# EAGLE library part CC3200MODR1M2AMOBT (library circuit_tree)
IC
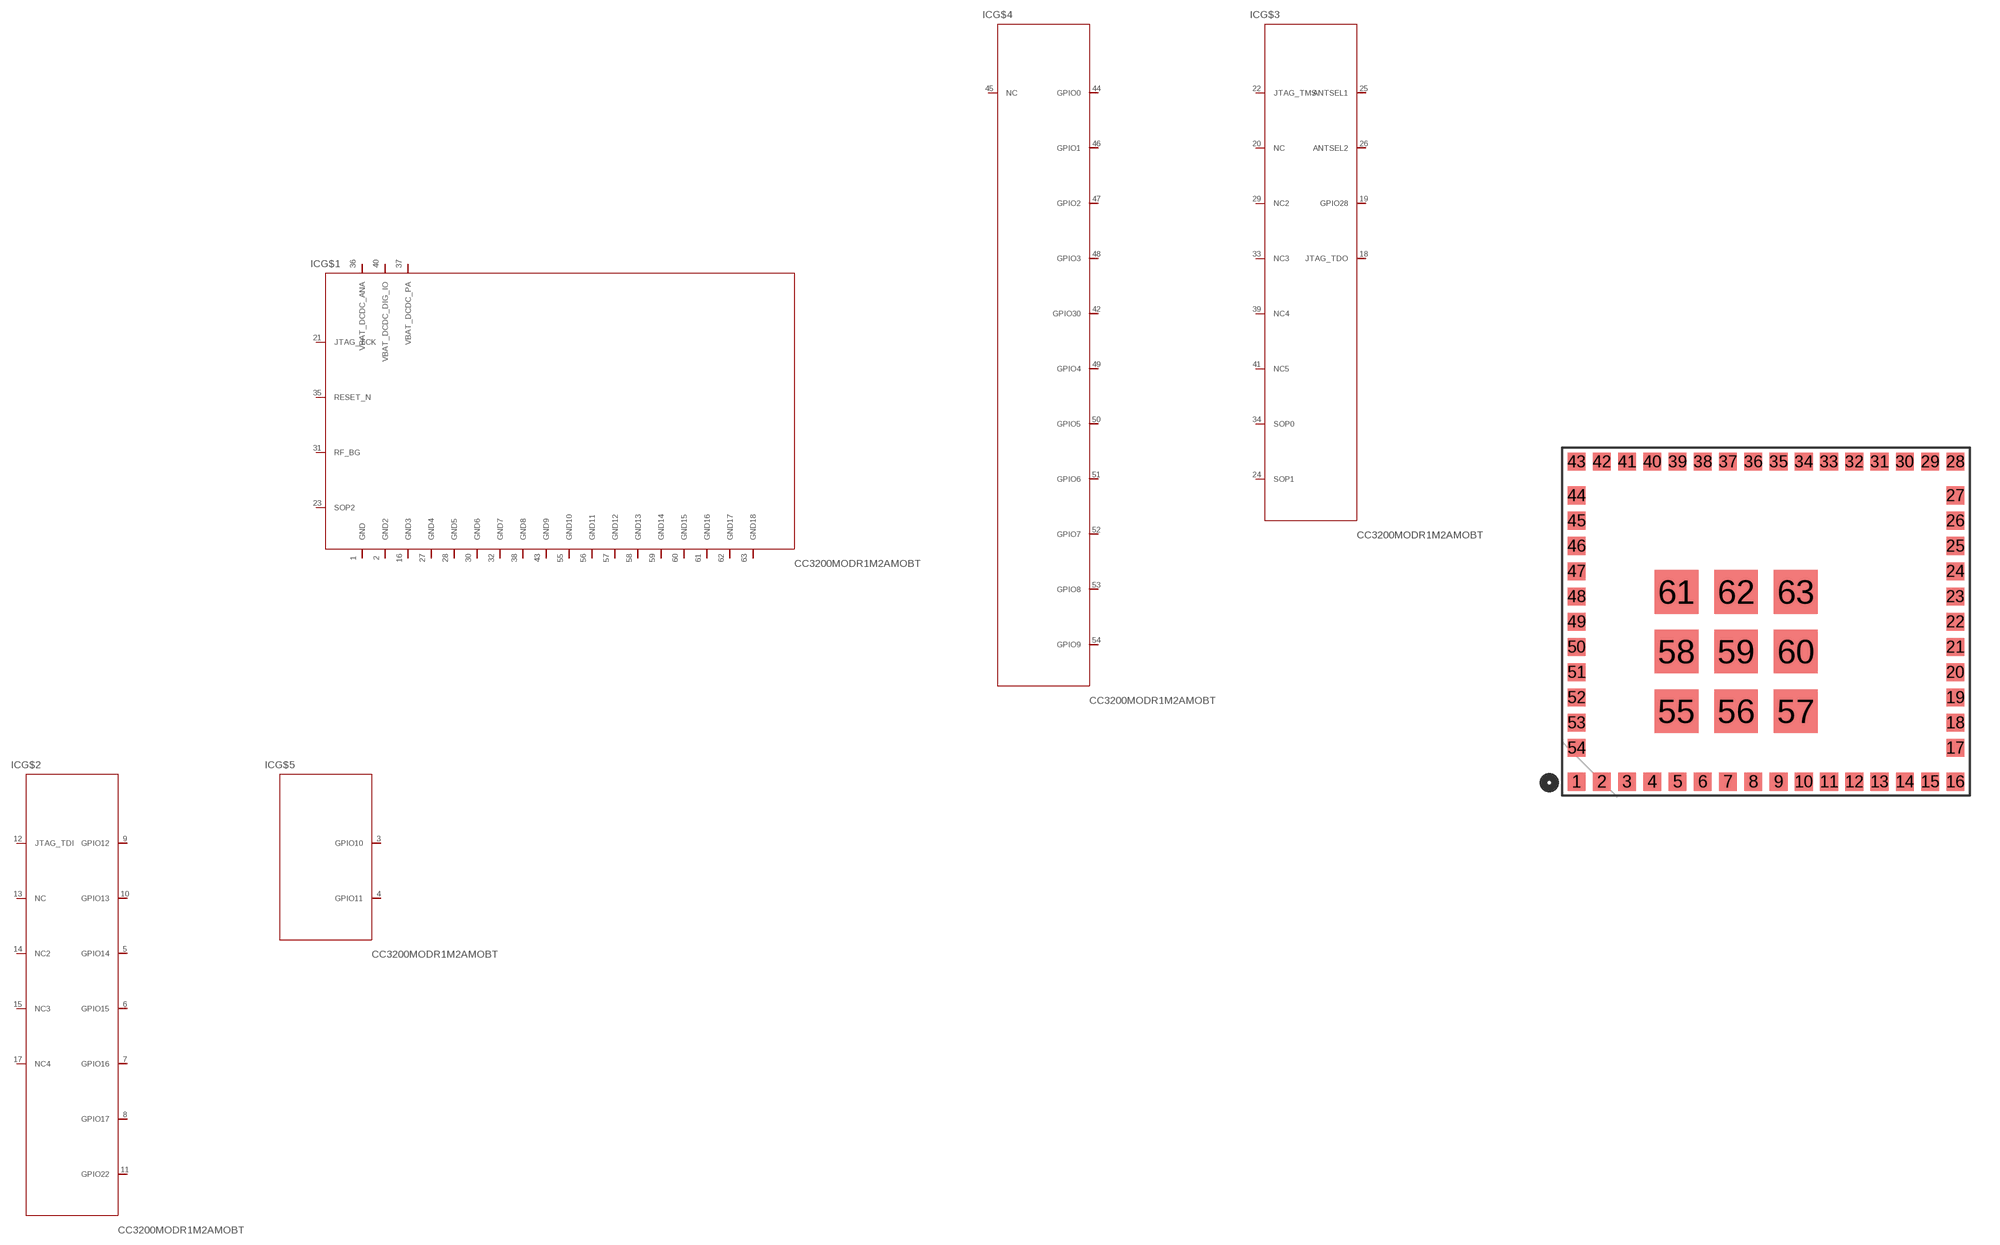
[diagram p0: symbol with the pads of LGA63S127P16X13_2050X1750X150; footprint LGA63S127P16X13_2050X1750X150]

Designator prefix IC; gates G$1=CC3200MODR1M2AMOBT G$2=CC3200MODR1M2AMOBT2 G$3=CC3200MODR1M2AMOBT3 G$4=CC3200MODR1M2AMOBT4 G$5=CC3200MODR1M2AMOBT5

## CC3200MODR1M2AMOBT  [LGA63S127P16X13_2050X1750X150]
1  G$1:GND  pas
2  G$1:GND2  pas
3  G$5:GPIO10  pas
4  G$5:GPIO11  pas
5  G$2:GPIO14  pas
6  G$2:GPIO15  pas
7  G$2:GPIO16  pas
8  G$2:GPIO17  pas
9  G$2:GPIO12  pas
10  G$2:GPIO13  pas
11  G$2:GPIO22  pas
12  G$2:JTAG_TDI  pas
13  G$2:NC  pas
14  G$2:NC2  pas
15  G$2:NC3  pas
16  G$1:GND3  pas
17  G$2:NC4  pas
18  G$3:JTAG_TDO  pas
19  G$3:GPIO28  pas
20  G$3:NC  pas
21  G$1:JTAG_TCK  pas
22  G$3:JTAG_TMS  pas
23  G$1:SOP2  pas
24  G$3:SOP1  pas
25  G$3:ANTSEL1  pas
26  G$3:ANTSEL2  pas
27  G$1:GND4  pas
28  G$1:GND5  pas
29  G$3:NC2  pas
30  G$1:GND6  pas
31  G$1:RF_BG  pas
32  G$1:GND7  pas
33  G$3:NC3  pas
34  G$3:SOP0  pas
35  G$1:RESET_N  pas
36  G$1:VBAT_DCDC_ANA  pas
37  G$1:VBAT_DCDC_PA  pas
38  G$1:GND8  pas
39  G$3:NC4  pas
40  G$1:VBAT_DCDC_DIG_IO  pas
41  G$3:NC5  pas
42  G$4:GPIO30  pas
43  G$1:GND9  pas
44  G$4:GPIO0  pas
45  G$4:NC  pas
46  G$4:GPIO1  pas
47  G$4:GPIO2  pas
48  G$4:GPIO3  pas
49  G$4:GPIO4  pas
50  G$4:GPIO5  pas
51  G$4:GPIO6  pas
52  G$4:GPIO7  pas
53  G$4:GPIO8  pas
54  G$4:GPIO9  pas
55  G$1:GND10  pas
56  G$1:GND11  pas
57  G$1:GND12  pas
58  G$1:GND13  pas
59  G$1:GND14  pas
60  G$1:GND15  pas
61  G$1:GND16  pas
62  G$1:GND17  pas
63  G$1:GND18  pas

## Footprint LGA63S127P16X13_2050X1750X150 (pad centres in mm)
smd 0.9 x 0.9: 1 -9.525,-8.05; 2 -8.255,-8.05; 3 -6.985,-8.05; 4 -5.715,-8.05; 5 -4.445,-8.05; 6 -3.175,-8.05; 7 -1.905,-8.05; 8 -0.635,-8.05; 9 0.635,-8.05; 10 1.905,-8.05; 11 3.175,-8.05; 12 4.445,-8.05; 13 5.715,-8.05; 14 6.985,-8.05; 15 8.255,-8.05; 16 9.525,-8.05; 17 9.525,-6.35; 18 9.525,-5.08; 19 9.525,-3.81; 20 9.525,-2.54; 21 9.525,-1.27; 22 9.525,0; 23 9.525,1.27; 24 9.525,2.54; 25 9.525,3.81; 26 9.525,5.08; 27 9.525,6.35; 28 9.525,8.05; 29 8.255,8.05; 30 6.985,8.05; 31 5.715,8.05; 32 4.445,8.05; 33 3.175,8.05; 34 1.905,8.05; 35 0.635,8.05; 36 -0.635,8.05; 37 -1.905,8.05; 38 -3.175,8.05; 39 -4.445,8.05; 40 -5.715,8.05; 41 -6.985,8.05; 42 -8.255,8.05; 43 -9.525,8.05; 44 -9.525,6.35; 45 -9.525,5.08; 46 -9.525,3.81; 47 -9.525,2.54; 48 -9.525,1.27; 49 -9.525,0; 50 -9.525,-1.27; 51 -9.525,-2.54; 52 -9.525,-3.81; 53 -9.525,-5.08; 54 -9.525,-6.35
smd 2.2 x 2.2: 55 -4.5,-4.5; 56 -1.5,-4.5; 57 1.5,-4.5; 58 -4.5,-1.5; 59 -1.5,-1.5; 60 1.5,-1.5; 61 -4.5,1.5; 62 -1.5,1.5; 63 1.5,1.5